# EAGLE library part MP2155GQ-Z (library GlacTracker)
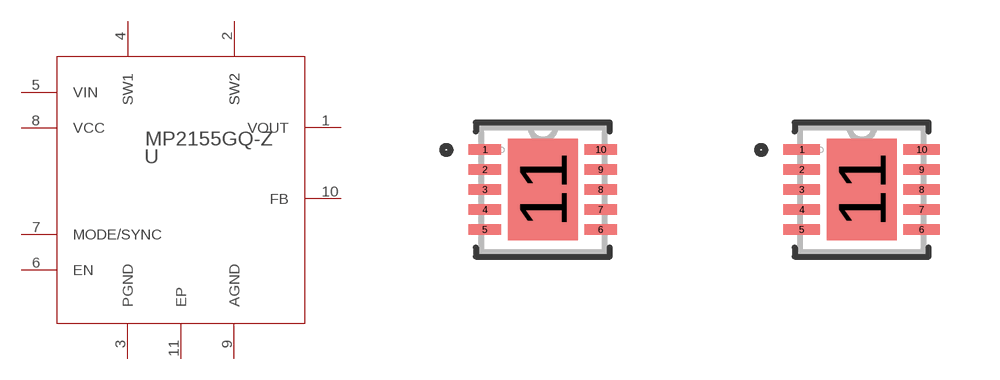
[diagram p5: symbol with the pads of QFN-10_MP2155_MNP; footprints QFN-10_MP2155_MNP, QFN-10_MP2155_MNP-M]

Designator prefix U

## MP2155GQ-Z (COPYRIGHT: Copyright (C) 2022 Ultra Librarian. All rights reserved.; MANUFACTURER_PART_NUMBER: MP2155GQ-Z; MFR_NAME: Monolithic Power Systems)  [QFN-10_MP2155_MNP]
1  VOUT  pwr
2  SW2  out
3  PGND  pwr
4  SW1  pas
5  VIN  pwr
6  EN  pas
7  MODE/SYNC  pas
8  VCC  pwr
9  AGND  pas
10  FB  pas
11  EP  pwr

## MP2155GQ-ZQFN-10_MP2155_MNP-M (COPYRIGHT: Copyright (C) 2022 Ultra Librarian. All rights reserved.; MANUFACTURER_PART_NUMBER: MP2155GQ-Z; MFR_NAME: Monolithic Power Systems)  [QFN-10_MP2155_MNP-M]
Pads as for QFN-10_MP2155_MNP

## MP2155GQ-ZQFN-10_MP2155_MNP-L (COPYRIGHT: Copyright (C) 2022 Ultra Librarian. All rights reserved.; MANUFACTURER_PART_NUMBER: MP2155GQ-Z; MFR_NAME: Monolithic Power Systems)  [QFN-10_MP2155_MNP-L]
Pads as for QFN-10_MP2155_MNP

## Footprint QFN-10_MP2155_MNP (pad centres in mm)
smd 0.813 x 0.254: 1 -1.448,1; 2 -1.448,0.5; 3 -1.448,0; 4 -1.448,-0.5; 5 -1.448,-1; 6 1.448,-1; 7 1.448,-0.5; 8 1.448,0; 9 1.448,0.5; 10 1.448,1
smd 1.753 x 2.54: 11 0,0

## Footprint QFN-10_MP2155_MNP-M (pad centres in mm)
smd 0.914 x 0.254: 1 -1.499,1; 2 -1.499,0.5; 3 -1.499,0; 4 -1.499,-0.5; 5 -1.499,-1; 6 1.499,-1; 7 1.499,-0.5; 8 1.499,0; 9 1.499,0.5; 10 1.499,1
smd 1.753 x 2.54: 11 0,0

## Footprint QFN-10_MP2155_MNP-L (pad centres in mm)
smd 0.711 x 0.254: 1 -1.397,1; 2 -1.397,0.5; 3 -1.397,0; 4 -1.397,-0.5; 5 -1.397,-1; 6 1.397,-1; 7 1.397,-0.5; 8 1.397,0; 9 1.397,0.5; 10 1.397,1
smd 1.753 x 2.54: 11 0,0